# Altium schematic symbol library Mini-Circuits_LPF_8pin.SchLib: 1 symbol
Pins are listed as number, name and electrical type; pins without a type are passive.

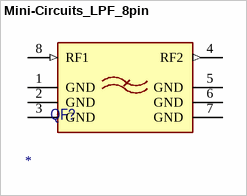
[diagram p0: symbol Mini-Circuits_LPF_8pin]

## Mini-Circuits_LPF_8pin
designator QF?
Part Number: *
pins: 1 GND (power), 2 GND (power), 3 GND (power), 4 RF2 (out), 5 GND (power), 6 GND (power), 7 GND (power), 8 RF1 (in)